# EAGLE library part BGU7007 (library Explore Labs EAGLE Library)
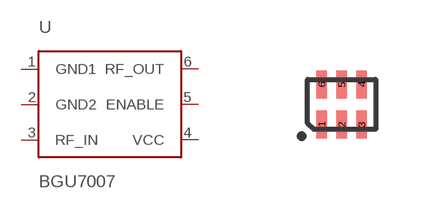
[diagram p29: symbol with the pads of SOT886; footprint SOT886]

Designator prefix -

## BGU7007,115  [SOT886]
1  GND1
2  GND2
3  RF_IN
4  VCC
5  ENABLE
6  RF_OUT

## Footprint SOT886 (pad centres in mm)
smd 0.27 x 0.7: 1 -0.5,-0.5; 2 0,-0.5; 3 0.5,-0.5; 4 0.5,0.5; 5 0,0.5; 6 -0.5,0.5